# Altium footprint library 23PS222.PcbLib: 1 footprints
Each footprint in its own frame and in the unit in brackets; x right, y up, seen from the top. Pads: shape width x height; smd on the part's side, far side on the other; paste and mask are expansions set on the pad; w line width, h text height; cw(c..) or ccw(c..) is an arc to the next point about the centre after c.
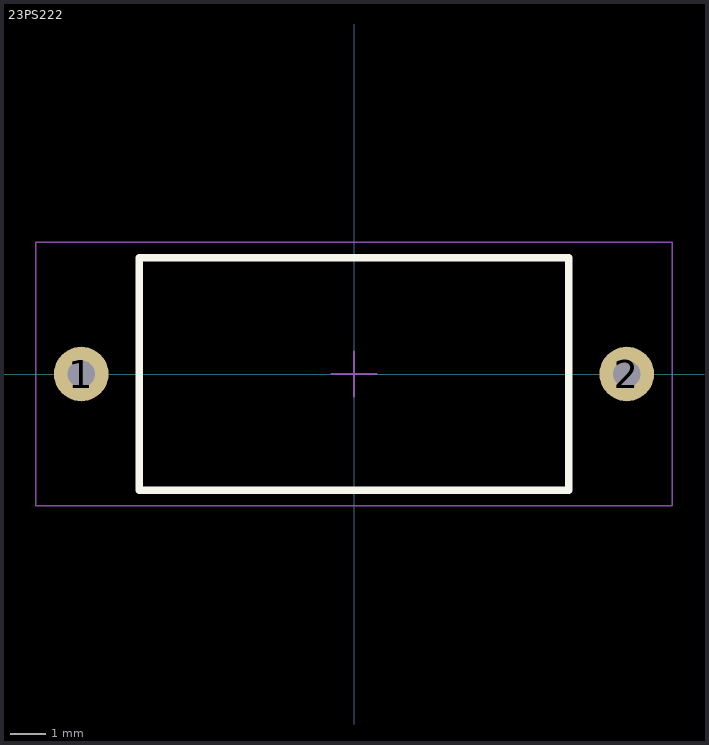
[diagram p0: the footprint, top view; thin cyan lines are the x and y axes]

## 23PS222 [mil]
pads (2):
  round 60 hole 30: 1(-300,0) 2(300,0)
Top Overlay:
  lines w7.87: -236.22,-127.95 -236.22,127.95 -25,127.95 50,127.95 236.22,127.95 236.22,-127.95 50,-127.95 -25,-127.95 -236.22,-127.95
Mechanical 15:
  lines w1.97: -25,0 25,0 ; 0,-25 0,25 ; -350,-145 -350,145 -175,145 85,145 350,145 350,-145 85,-145 -175,-145 -350,-145